# Altium schematic symbol library MagnetorquerFinalBoard.SchLib: 12 symbols
Pins are listed as number, name and electrical type; pins without a type are passive.

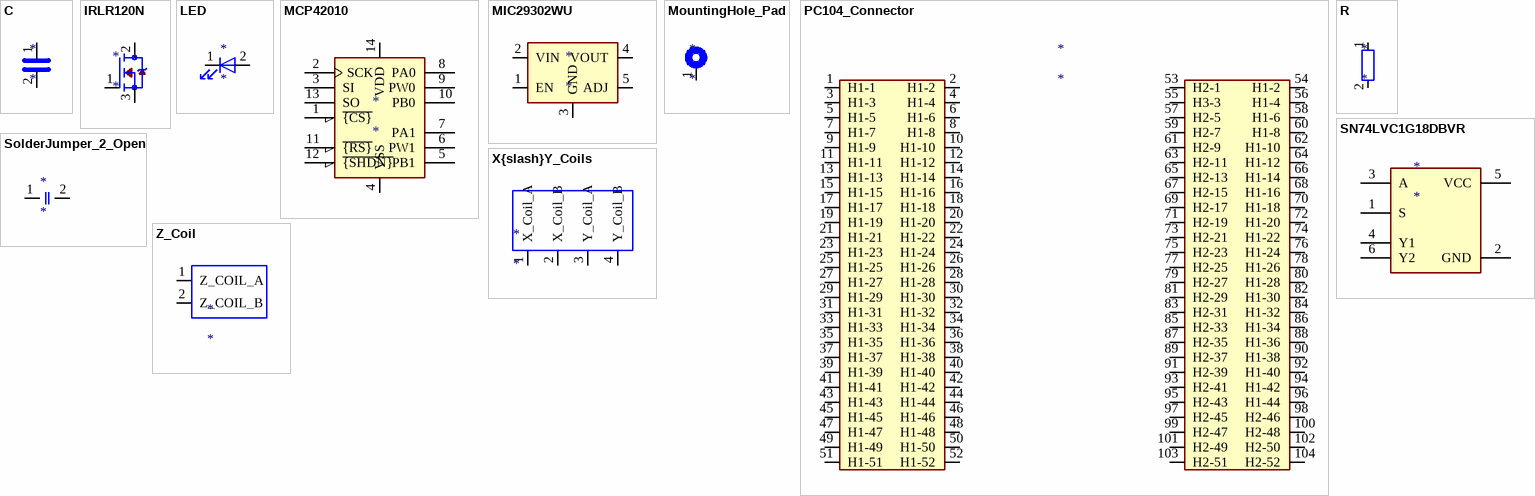
[diagram p0: symbols C to Z_Coil]

## C
designator *
pins: 1, 2

## IRLR120N
designator *
pins: 1, 2, 3

## LED
designator *
pins: 1 K, 2 A

## MCP42010
designator *
pins: 1 ~{{CS}}, 2 SCK, 3 SI, 4 VSS, 5 PB1, 6 PW1, 7 PA1, 8 PA0, 9 PW0, 10 PB0, 11 ~{{RS}}, 12 ~{{SHDN}}, 13 SO, 14 VDD

## MIC29302WU
designator *
pins: 1 EN, 2 VIN, 3 GND, 4 VOUT, 5 ADJ

## MountingHole_Pad
designator *
pins: 1

## PC104_Connector
designator *
pins: 1 H1-1, 2 H1-2, 3 H1-3, 4 H1-4, 5 H1-5, 6 H1-6, 7 H1-7, 8 H1-8, 9 H1-9, 10 H1-10, 11 H1-11, 12 H1-12, 13 H1-13, 14 H1-14, 15 H1-15, 16 H1-16, 17 H1-17, 18 H1-18, 19 H1-19, 20 H1-20, 21 H1-21, 22 H1-22, 23 H1-23, 24 H1-24, 25 H1-25, 26 H1-26, 27 H1-27, 28 H1-28, 29 H1-29, 30 H1-30, 31 H1-31, 32 H1-32, 33 H1-33, 34 H1-34, 35 H1-35, 36 H1-36, 37 H1-37, 38 H1-38, 39 H1-39, 40 H1-40, 41 H1-41, 42 H1-42, 43 H1-43, 44 H1-44, 45 H1-45, 46 H1-46, 47 H1-47, 48 H1-48, 49 H1-49, 50 H1-50, 51 H1-51, 52 H1-52, 53 H2-1, 54 H1-2, 55 H3-3, 56 H1-4, 57 H2-5, 58 H1-6, 59 H2-7, 60 H1-8, 61 H2-9, 62 H1-10, 63 H2-11, 64 H1-12, 65 H2-13, 66 H1-14, 67 H2-15, 68 H1-16, 69 H2-17, 70 H1-18, 71 H2-19, 72 H1-20, 73 H2-21, 74 H1-22, 75 H2-23, 76 H1-24, 77 H2-25, 78 H1-26, 79 H2-27, 80 H1-28, 81 H2-29, 82 H1-30, 83 H2-31, 84 H1-32, 85 H2-33, 86 H1-34, 87 H2-35, 88 H1-36, 89 H2-37, 90 H1-38, 91 H2-39, 92 H1-40, 93 H2-41, 94 H1-42, 95 H2-43, 96 H1-44, 97 H2-45, 98 H2-46, 99 H2-47, 100 H2-48, 101 H2-49, 102 H2-50, 103 H2-51, 104 H2-52

## R
designator *
pins: 1, 2

## SN74LVC1G18DBVR
designator *
pins: 1 S, 2 GND, 3 A, 4 Y1, 5 VCC, 6 Y2

## SolderJumper_2_Open
designator *
pins: 1 A, 2 B

## X{slash}Y_Coils
designator *
pins: 1 X_Coil_A, 2 X_Coil_B, 3 Y_Coil_A, 4 Y_Coil_B

## Z_Coil
designator *
pins: 1 Z_COIL_A, 2 Z_COIL_B